# Altium schematic symbol library T543C107K010ATE025.SchLib: 1 symbol
Pins are listed as number, name and electrical type; pins without a type are passive.

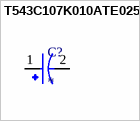
[diagram p0: symbol T543C107K010ATE025]

## T543C107K010ATE025
designator C?
Tantalum Capacitors - Polymer 10V 100uF 2312 10% ESR=25mOhms; MP: T543C107K010ATE025; MF: KEMET; Package: SMD-2 Kemet; Purchase-URL: https://pricing.snapeda.com/search/part/T543C107K010ATE025/?ref=eda; SnapEDA_Link: https://www.snapeda.com/parts/T543C107K010ATE025/KEMET/view-part/5867496/?ref=snap; Value: *; Availability: In Stock; Price: None; Check_prices: https://www.snapeda.com/parts/T543C107K010ATE025/KEMET/view-part/5867496/?ref=eda
footprint CAPMP6032X280N
pins: 1, 2